# Altium footprint library PcbLib.PcbLib: 19 footprints (part 2 of 2)
Each footprint in its own frame and in the unit in brackets; x right, y up, seen from the top. Pads: shape width x height; smd on the part's side, far side on the other; paste and mask are expansions set on the pad; w line width, h text height; cw(c..) or ccw(c..) is an arc to the next point about the centre after c.
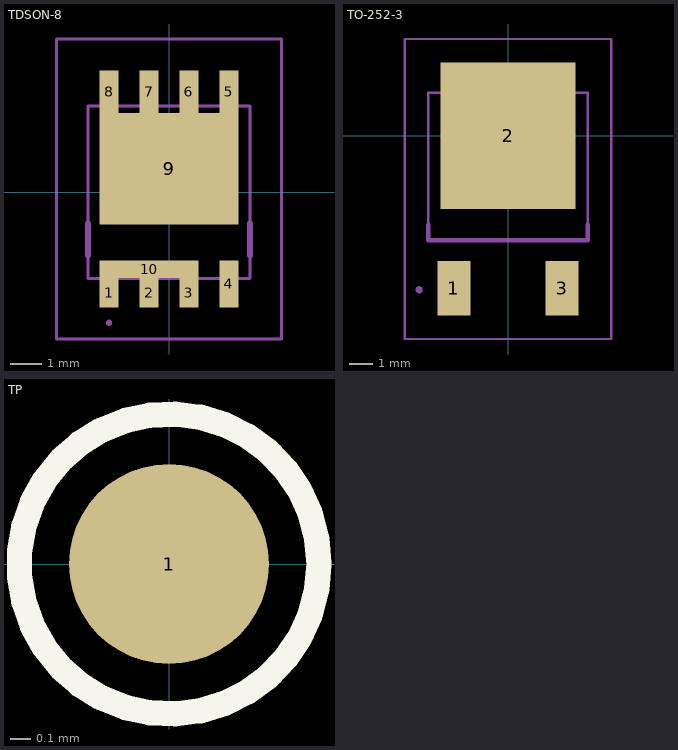
[diagram p1: the footprints below, top view; thin cyan lines are the x and y axes]

## TDSON-8 [mm]
pads (10):
  rect 0.6x0.935 smd: 1(-1.905,-3.199) 2(-0.635,-3.199) 3(0.635,-3.199)
  rect 0.6x1.5 smd: 4(1.905,-2.916)
  rect 0.6x1.35 smd: 5(1.905,3.199) 6(0.635,3.199) 7(-0.635,3.199) 8(-1.905,3.199)
  rect 4.41x3.545 smd: 9(0,0.751)
  rect 3.14x0.565 smd: 10(-0.635,-2.449)
Bottom Assembly:
  lines w0.1: -3.575,-4.666 3.575,-4.666 3.575,4.874 -3.575,4.874 -3.575,-4.666 ; -2.575,-2.74 2.575,-2.74 2.575,2.74 -2.575,2.74 -2.575,-2.74
Mechanical 7:
  lines w0.1: -1.905,-4.2 cw(c-1.905,-4.15) -1.905,-4.1 cw(c-1.905,-4.15) -1.905,-4.2
  lines w0.2: -2.575,-2 -2.575,-1 ; 2.575,-2 2.575,-1
3D body "IAUC120N06S5N017ATMA1 PACKAGE V1.step": height 1, standoff 0, extent -2.695,-3.051 2.715,3.389

## TO-252-3 [mil]
pads (3):
  rect 55x90 smd: 1(-90,-253.35) 3(90,-253.35)
  rect 224.02x243.31 smd: 2(0,0)
Bottom Assembly:
  lines w3.94: -171.85,-337.72 171.85,-337.72 171.85,161.02 -171.85,161.02 -171.85,-337.72 ; -132.48,-173.43 132.48,-173.43 132.48,71.46 -132.48,71.46 -132.48,-173.43
Mechanical 7:
  lines w7.87: -149.61,-255.91 ccw(c-147.64,-255.91) -145.67,-255.91 ; -149.61,-255.91 cw(c-147.64,-255.91) -145.67,-255.91 ; -149.61,-255.91 ccw(c-147.64,-255.91) -145.67,-255.91 ; -132.48,-173.43 -132.48,-147.64 -132.48,-173.43 ; -132.48,-173.43 132.48,-173.43 ; -132.48,-173.43 132.48,-173.43 ; 132.48,-173.43 132.48,-147.64 132.48,-173.43
3D body "TO-252-3_1.stp": height 92.52, standoff 0, extent -127.36,-282.95 128.54,109.96

## TP [mm]
pads (1):
  round 1 smd paste-2 mask+0.1: 1(0,0)
Top Overlay:
  circle w0.127: c0,0 r0.75